# Altium integrated library 47uF_PolCap_EEEFN1C470UR.IntLib: 1 symbol
Pins are listed as number, name and electrical type; pins without a type are passive.

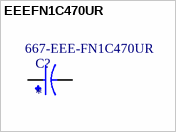
[diagram p0: symbol EEEFN1C470UR]

## EEEFN1C470UR
designator C?  Supplier Part Number 1: 667-EEE-FN1C470UR
CAP ALUM 47UF 20% 16V SMD; MF: Panasonic Electronic Components; MP: EEE-FN1C470UR; Value: *; Purchase-URL: https://pricing.snapeda.com/search/part/EEE-FN1C470UR/?ref=eda; Price: None; Check_prices: https://www.snapeda.com/parts/EEE-FN1C470UR/Panasonic/view-part/6178044/?ref=eda; Package: RADIAL-2 Panasonic; Availability: In Stock; SnapEDA_Link: https://www.snapeda.com/parts/EEE-FN1C470UR/Panasonic/view-part/6178044/?ref=snap; Supplier 1: Mouser
footprint CAP_EEEFN1C470UR
pins: 1, 2